# Altium integrated library MAX4544EUT_T.IntLib: 1 symbol
Pins are listed as number, name and electrical type; pins without a type are passive.

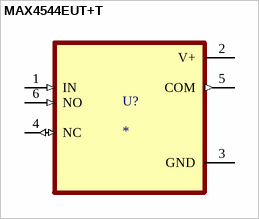
[diagram p0: symbol MAX4544EUT+T]

## MAX4544EUT+T
designator U?
Analog Switch Single SPDT 6-Pin SOT-23 T/R; MF: Analog Devices; MP: MAX4544EUT+T; SnapEDA_Link: https://www.snapeda.com/parts/MAX4544EUT+T/Analog+Devices/view-part/?ref=snap; Package: SOT-23-6 Maxim Integrated; Value: *; Check_prices: https://www.snapeda.com/parts/MAX4544EUT+T/Analog+Devices/view-part/?ref=eda
footprint SOT95P280X145-6N
pins: 1 IN (in), 2 V+ (power), 3 GND (power), 4 NC (io), 5 COM (out), 6 NO (in)